# Altium footprint library JV1210C-7.PcbLib: 1 footprints
Each footprint in its own frame and in the unit in brackets; x right, y up, seen from the top. Pads: shape width x height; smd on the part's side, far side on the other; paste and mask are expansions set on the pad; w line width, h text height; cw(c..) or ccw(c..) is an arc to the next point about the centre after c.
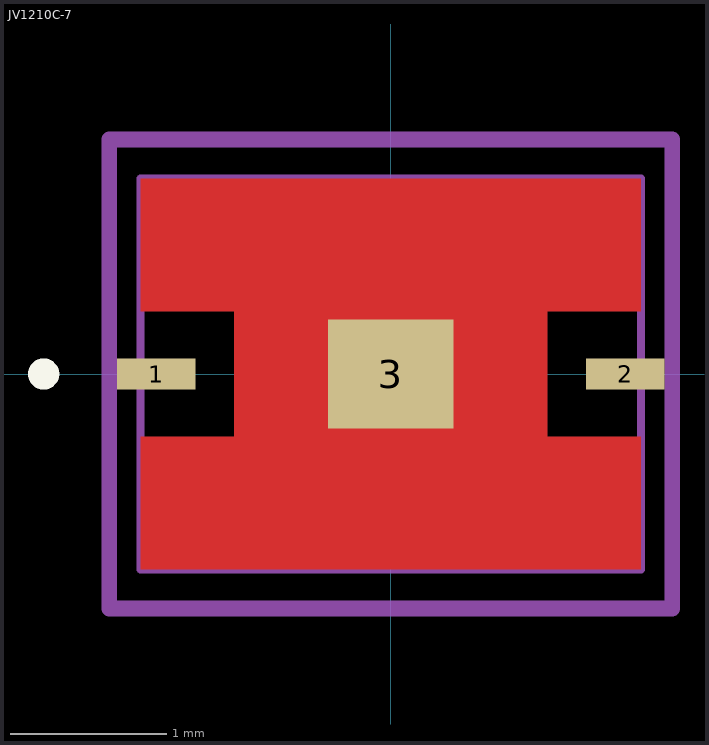
[diagram p0: the footprint, top view; thin cyan lines are the x and y axes]

## JV1210C-7 [mm]
height 0.6
pads (3):
  rect 0.5x0.2 smd mask+0.05: 1(-1.5,0) 2(1.5,0)
  rect 0.8x0.7 smd paste-10: 3(0,0)
Top Layer:
  region: -1.6,-1.25 -1.6,-0.4 -1,-0.4 -1,0.4 -1.6,0.4 -1.6,1.25 1.6,1.25 1.6,0.4 1,0.4 1,-0.4 1.6,-0.4 1.6,-1.25
Top Overlay:
  lines w0.1: -2.27,0 ccw(c-2.22,0) -2.17,0 ccw(c-2.22,0) -2.27,0
Top Paste:
  region: -0.875,-0.175 -0.875,-0.575 -1.425,-0.575 -1.425,-1.1 -0.15,-1.1 -0.15,-0.175
  region: 0.875,-0.175 0.875,-0.575 1.425,-0.575 1.425,-1.1 0.15,-1.1 0.15,-0.175
  region: 0.875,0.175 0.875,0.575 1.425,0.575 1.425,1.1 0.15,1.1 0.15,0.175
  region: -0.875,0.175 -0.875,0.575 -1.425,0.575 -1.425,1.1 -0.15,1.1 -0.15,0.175
Top Courtyard:
  lines w0.05: -1.6,-1.25 1.6,-1.25 ; -1.6,-1.25 -1.6,-1.25 ; -1.6,-1.25 -1.6,1.25 1.6,1.25 1.6,-1.25 ; 1.6,-1.25 1.6,-1.25
Mechanical 15:
  lines w0.1: -1.8,-1.5 1.8,-1.5 1.8,1.5 1.3,1.5 -1.135,1.5 -1.8,1.5 -1.8,-1.5
3D body: height 0.95, standoff 0, extent -1.6,-1.25 1.6,1.25